# Altium footprint library PcbLib1.PcbLib: 33 footprints (part 2 of 3)
Each footprint in its own frame and in the unit in brackets; x right, y up, seen from the top. Pads: shape width x height; smd on the part's side, far side on the other; paste and mask are expansions set on the pad; w line width, h text height; cw(c..) or ccw(c..) is an arc to the next point about the centre after c.
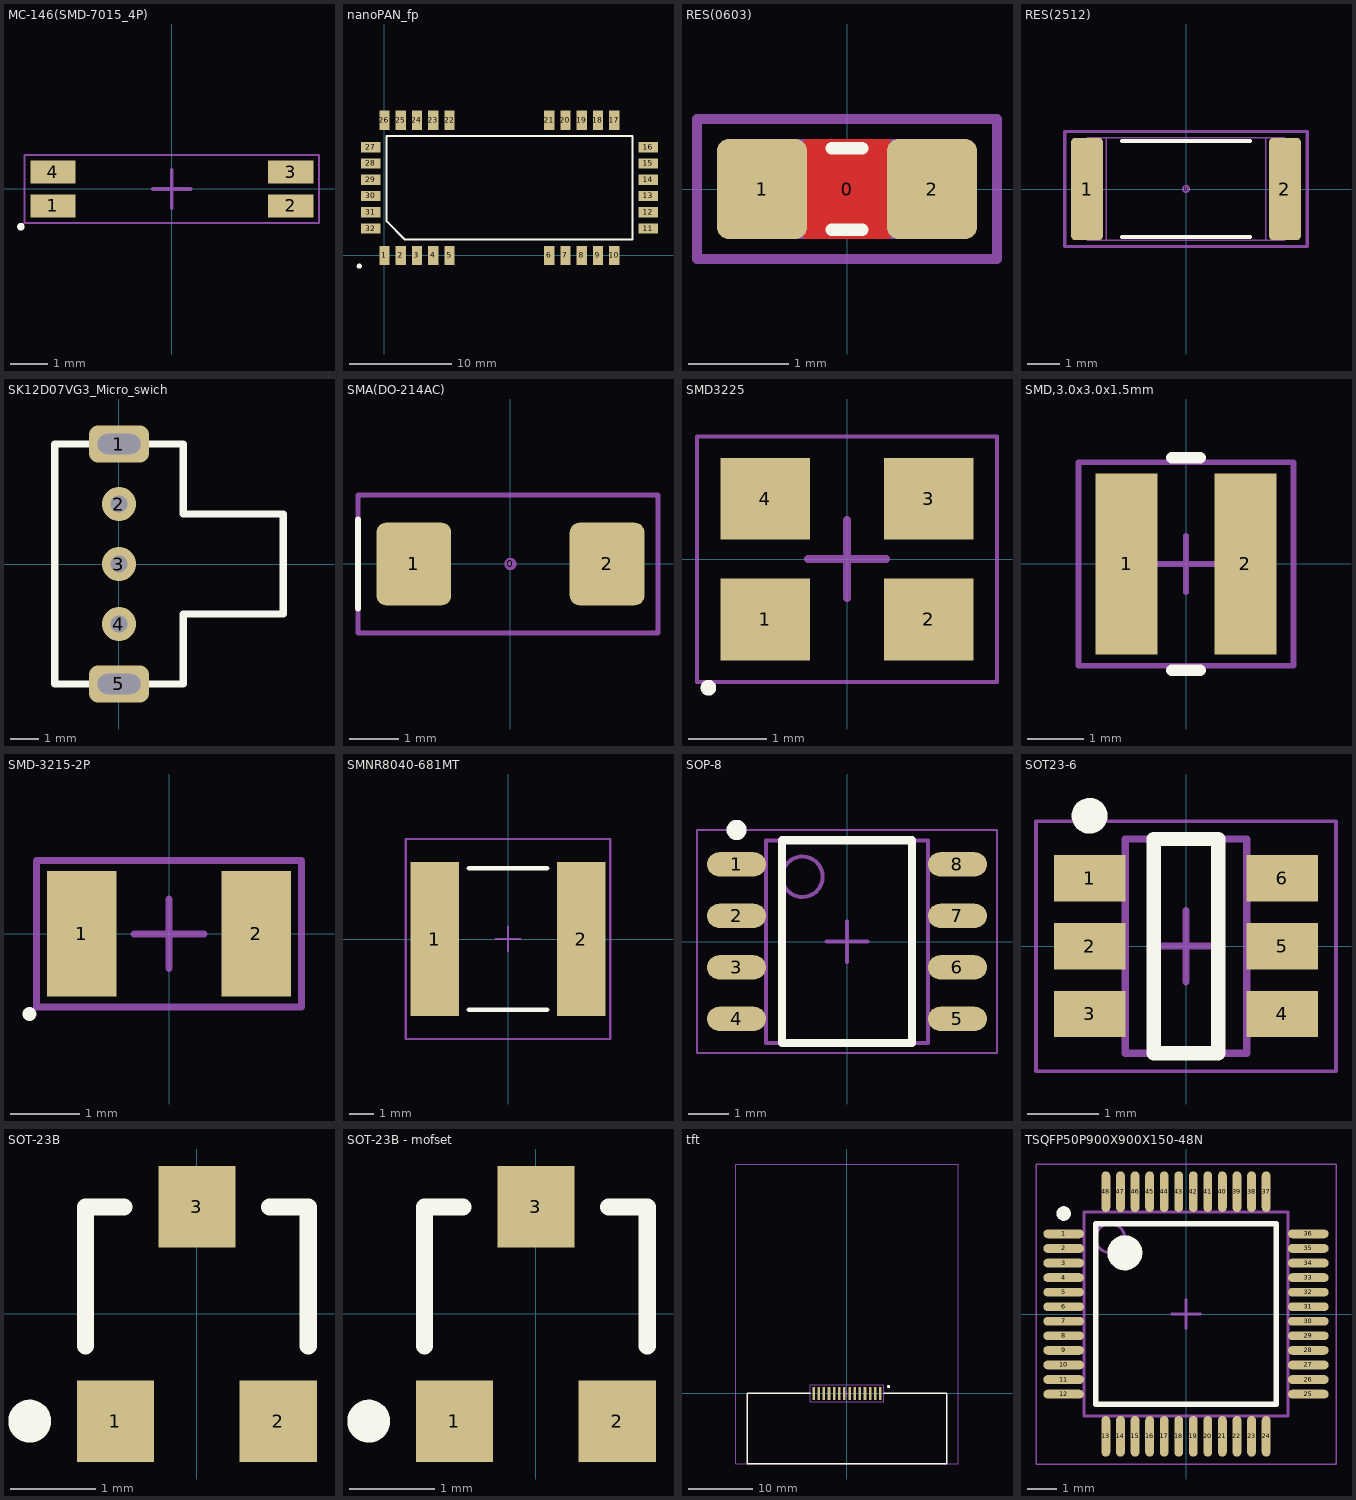
[diagram p1: the footprints below, top view; thin cyan lines are the x and y axes]

## MC-146(SMD-7015_4P) [mm]
height 1.4
pads (4):
  rect 1.2x0.6 smd: 1(-3.15,-0.45) 2(3.15,-0.45) 3(3.15,0.45) 4(-3.15,0.45)
Top Overlay:
  circle w0.1: c-4,-1 r0.05
Mechanical 15:
  lines w0.05: -3.9,-0.9 3.9,-0.9 3.9,0.9 -3.9,0.9 -3.9,-0.9
  lines w0.1: -0.5,0 0.5,0 ; 0,-0.5 0,0.5
3D body: height 1.4, standoff 0, extent -3.4,-0.7 3.4,0.7

## nanoPAN_fp [mm]
pads (32):
  rect 1x1.9 smd: 1(0,0) 2(1.6,0) 3(3.2,0) 4(4.8,0) 5(6.4,0) 6(16.2,0) 7(17.8,0) 8(19.4,0) 9(21,0) 10(22.6,0) 17(22.6,13.3) 18(21,13.3) 19(19.4,13.3) 20(17.8,13.3) 21(16.2,13.3) 22(6.4,13.3) 23(4.8,13.3) 24(3.2,13.3) 25(1.6,13.3) 26(0,13.3)
  rect 1.9x1 smd: 11(25.95,2.65) 12(25.95,4.25) 13(25.95,5.85) 14(25.95,7.45) 15(25.95,9.05) 16(25.95,10.65) 27(-1.35,10.65) 28(-1.35,9.05) 29(-1.35,7.45) 30(-1.35,5.85) 31(-1.35,4.25) 32(-1.35,2.65)
Top Overlay:
  circle w0.25: c-2.475,-1.05 r0.125
  lines w0.2: 0.225,3.35 0.225,11.75 24.375,11.75 24.375,1.55 2.025,1.55 0.225,3.35
3D body: height 3, standoff 0.8, extent -1.95,-0.6 26.55,13.9
3D body: height 0.8, standoff 0, extent -2.222,-0.85 26.822,14.15

## RES(0603) [mm] "Res 0603"
height 0.5
pads (3):
  round 0.254 on Mech15: 0(0,0)
  rrect25% 0.9x1 smd: 1(-0.85,0) 2(0.85,0)
Top Layer:
  pour cut-out: -0.425,0.5 0.425,0.5 0.425,-0.5 -0.425,-0.5
Top Overlay:
  lines w0.127: -0.152,-0.406 0.152,-0.406 ; -0.152,0.406 0.152,0.406
Mechanical 13:
  lines w0.05: -0.875,-0.475 -0.475,-0.475 -0.475,0.475 -0.875,0.475 -0.875,-0.475 ; -0.475,-0.474 0.475,-0.474 -0.475,-0.474 ; -0.475,0.474 0.475,0.474 -0.475,0.474 ; 0.475,-0.475 0.475,0.475 0.875,0.475 0.875,-0.475 0.475,-0.475
Mechanical 15:
  lines w0.1: -1.5,-0.7 -1.5,0.7 1.5,0.7 1.5,-0.7 -1.5,-0.7
3D body: height 0.5, standoff 0, extent -0.6,-0.475 0.6,0.475
3D body: height 0.5, standoff 0, extent -0.9,-0.475 -0.6,0.475
3D body: height 0.5, standoff 0, extent 0.6,-0.475 0.9,0.475

## RES(2512) [mm] "Res 2512"
height 0.6
pads (3):
  round 0.254 on Mech15: 0(0,0)
  rrect25% 1x3.2 smd: 1(-3.1,0) 2(3.1,0)
Top Overlay:
  lines w0.127: -2,-1.5 2,-1.5 ; -2,1.5 2,1.5
Mechanical 13:
  lines w0.05: -2.5,-1.6 2.5,-1.6 ; -2.5,-1.6 -3.1,-1.6 -3.1,1.6 -2.5,1.6 ; -2.5,-1.6 -2.5,1.6 ; -2.5,1.6 2.5,1.6 ; 2.5,-1.6 3.1,-1.6 ; 2.5,-1.6 2.5,1.6 ; 2.5,1.6 3.1,1.6 3.1,-1.6 ; 3.1,-1.6 3.1,-1.6
Mechanical 15:
  lines w0.1: -3.8,-1.8 3.8,-1.8 3.8,1.8 -3.8,1.8 -3.8,-1.8
3D body: height 0.5, standoff 0, extent 2.5,-1.6 3.1,1.6
3D body: height 0.5, standoff 0, extent -3.1,-1.6 -2.5,1.6
3D body: height 0.5, standoff 0, extent -2.5,-1.6 2.5,1.6

## SK12D07VG3_Micro_swich [mm] "4.5*8.6"
height 4.7
pads (5):
  rrect50% 2.1x1.3 hole 0.7 slot 1.5 at 0 deg: 1(0,4.2) 5(0,-4.2)
  round 1.2 hole 0.6: 2(0,2.1) 3(0,0) 4(0,-2.1)
Top Overlay:
  lines w0.254: -2.25,-4.2 2.25,-4.2 2.25,-1.75 5.75,-1.75 5.75,1.75 2.25,1.75 2.25,4.2 -2.25,4.2 -2.25,-4.2
3D body "User Library-CK_Slide.step": height 4.8, standoff -2.69, extent -2.1,-4.23 6.272,4.38

## SMA(DO-214AC) [mm]
height 2.5
pads (3):
  round 0.254 on Mech15: 0(0,0)
  rrect25% 1.52x1.68 smd: 1(-1.965,0) 2(1.965,0)
Top Overlay:
  lines w0.127: -3.1,-0.9 -3.1,0.9
Mechanical 15:
  lines w0.1: -3.1,-1.4 -3.1,1.4 3,1.4 3,-1.4 -3.1,-1.4
3D body: height 0.5, standoff 0, extent -1.5,-1.4 2.25,1.4
3D body: height 0.5, standoff 0, extent -2.25,-1.4 -1.5,1.4

## SMD3225 [mm] "DFN, 4-Leads, Body 2,50x3,20mm, Pitch 2,10mm, IPC Medium Density"
height 0.9
pads (4):
  rect 1.15x1.05 smd: 1(-1.05,-0.775) 2(1.05,-0.775) 3(1.05,0.775) 4(-1.05,0.775)
Top Overlay:
  circle w0.1: c-1.778,-1.651 r0.05
Mechanical 15:
  lines w0.05: -1.925,-1.575 1.925,-1.575 1.925,1.575 -1.925,1.575 -1.925,-1.575
  lines w0.1: -0.5,0 0.5,0 ; 0,-0.5 0,0.5
3D body "SMD3225.STP": height 0.61, standoff 0, extent -1.6,-1.25 1.6,1.25

## SMD,3.0x3.0x1.5mm [mm] "Chip Inductor, Body 4.0x4.0x3.0mm"
height 1.5
pads (2):
  rect 1.1x3.2 smd: 1(-1.05,0) 2(1.05,0)
Top Overlay:
  lines w0.2: -0.25,-1.875 0.25,-1.875 ; -0.25,1.875 0.25,1.875
Mechanical 15:
  lines w0.1: -0.5,0 0.5,0 ; 0,-0.5 0,0.5 ; -1.9,-1.8 1.9,-1.8 1.9,1.8 -1.9,1.8 -1.9,-1.8
3D body: height 1.5, standoff 0, extent -1.5,-1.5 1.5,1.5

## SMD-3215-2P [mm]
height 0.75
pads (2):
  rect 1x1.8 smd: 1(-1.25,0) 2(1.25,0)
Top Overlay:
  circle w0.1: c-2,-1.15 r0.05
Mechanical 15:
  lines w0.1: -0.5,0 0.5,0 ; 0,-0.5 0,0.5 ; -1.9,-1.05 1.9,-1.05 1.9,1.05 -1.9,1.05 -1.9,-1.05
3D body: height 0.75, standoff 0, extent -1.6,-0.75 1.6,0.75

## SMNR8040-681MT [mm] "Chip Inductor, Body 8.0x8.0x4.0mm"
height 4
pads (2):
  rect 2x6.3 smd: 1(-3,0) 2(3,0)
Top Overlay:
  lines w0.2: -1.6,-2.9 1.6,-2.9 ; -1.6,2.9 1.6,2.9
Mechanical 15:
  lines w0.1: -0.5,0 0.5,0 ; 0,-0.5 0,0.5 ; -4.2,-4.1 -4.2,4.1 4.2,4.1 4.2,-4.1 -4.2,-4.1
3D body: height 4, standoff 0, extent -4,-4 4,4

## SOP-8 [mm] "SOP, 8-Leads, Body 4,90x3,90mm, Pitch 1,27mm, IPC Medium Density"
height 1.5
pads (8):
  oval 1.45x0.6 smd: 1(-2.725,1.905) 2(-2.725,0.635) 3(-2.725,-0.635) 4(-2.725,-1.905) 5(2.725,-1.905) 6(2.725,-0.635) 7(2.725,0.635) 8(2.725,1.905)
Top Overlay:
  circle w0.25: c-2.725,2.755 r0.125
  lines w0.2: -1.6,-2.5 1.6,-2.5 1.6,2.5 -1.6,2.5 -1.6,-2.5
Mechanical 13:
  circle w0.1: c-1.1,1.6 r0.5
  lines w0.1: -2,-2.5 2,-2.5 2,2.5 -2,2.5 -2,-2.5
Mechanical 15:
  lines w0.05: -3.7,-2.75 3.7,-2.75 3.7,2.75 -3.7,2.75 -3.7,-2.75
  lines w0.1: -0.5,0 0.5,0 ; 0,-0.5 0,0.5
3D body: height 1.5, standoff 0.1, extent -2,-2.5 2,2.5

## SOT23-6 [mm]
height 1.35
pads (6):
  rect 1x0.65 smd: 1(-1.35,0.95) 2(-1.35,0) 3(-1.35,-0.95) 4(1.35,-0.95) 5(1.35,0) 6(1.35,0.95)
Top Overlay:
  circle w0.25: c-1.35,1.825 r0.125
  lines w0.2: -0.45,-1.5 -0.45,1.5 0.45,1.5 0.45,-1.5 -0.45,-1.5
Mechanical 13:
  lines w0.1: -0.85,-1.5 0.85,-1.5 0.85,1.5 -0.85,1.5 -0.85,-1.5
Mechanical 15:
  lines w0.05: -2.1,-1.75 2.1,-1.75 2.1,1.75 -2.1,1.75 -2.1,-1.75
  lines w0.1: -0.5,0 0.5,0 ; 0,-0.5 0,0.5
3D body: height 1.35, standoff 0.05, extent -0.85,-1.5 0.85,1.5

## SOT-23B [mm] "SOT-23; 3 Leads; Body 3.0 x 2.6 mm, inc. leads (LxW max)"
height 1.09
pads (3):
  rect 0.9x0.95 smd: 1(-0.95,-1.25) 2(0.95,-1.25) 3(0,1.25)
Top Overlay:
  circle w0.25: c-1.95,-1.25 r0.125
  lines w0.2: -1.3,-0.375 -1.3,1.25 -0.85,1.25 ; 0.85,1.25 1.3,1.25 1.3,-0.375
3D body "BAV99.stp": height 1.1, standoff 0, extent -1.45,-1.15 1.45,1.15

## SOT-23B - mofset [mm] "SOT-23; 3 Leads; Body 3.0 x 2.6 mm, inc. leads (LxW max)"
height 1.09
pads (3):
  rect 0.9x0.95 smd: 1(-0.95,-1.25) 2(0.95,-1.25) 3(0,1.25)
Top Overlay:
  circle w0.25: c-1.95,-1.25 r0.125
  lines w0.2: -1.3,-0.375 -1.3,1.25 -0.85,1.25 ; 0.85,1.25 1.3,1.25 1.3,-0.375
3D body "BAV99.stp": height 1.1, standoff 0, extent -1.45,-1.15 1.45,1.15

## tft [mm] "14pin, 0.4w"
pads (14):
  rect 0.4x2 smd: 1(5.2,0) 2(4.4,0) 3(3.6,0) 4(2.8,0) 5(2,0) 6(1.2,0) 7(0.4,0) 8(-0.4,0) 9(-1.2,0) 10(-2,0) 11(-2.8,0) 12(-3.6,0) 13(-4.4,0) 14(-5.2,0)
Top Overlay:
  circle w0.25: c6.475,1.05 r0.125
  lines w0.2: -5.75,0 -15.5,0 -15.5,-11 15.5,-11 15.5,0 5.75,0
Mechanical 13:
  lines w0.05: -17.35,-11 -17.35,35.7 17.35,35.7 17.35,-11 -17.35,-11
Mechanical 15:
  lines w0.1: -0.5,0 0.5,0 ; 0,-0.5 0,0.5 ; -5.7,-1.3 -5.7,1.3 5.7,1.3 5.7,-1.3 -5.7,-1.3
3D body: height 2.5, standoff 0, extent -17.35,-11 17.35,35.7

## TSQFP50P900X900X150-48N [mm] "TSQFP, 48-Leads, Body 7,00x7,00mm, Pitch 0,50mm, IPC Medium Density"
height 1.5
pads (48):
  oval 1.4x0.3 smd: 1(-4.2,2.75) 2(-4.2,2.25) 3(-4.2,1.75) 4(-4.2,1.25) 5(-4.2,0.75) 6(-4.2,0.25) 7(-4.2,-0.25) 8(-4.2,-0.75) 9(-4.2,-1.25) 10(-4.2,-1.75) 11(-4.2,-2.25) 12(-4.2,-2.75) 25(4.2,-2.75) 26(4.2,-2.25) 27(4.2,-1.75) 28(4.2,-1.25) 29(4.2,-0.75) 30(4.2,-0.25) 31(4.2,0.25) 32(4.2,0.75) 33(4.2,1.25) 34(4.2,1.75) 35(4.2,2.25) 36(4.2,2.75)
  oval 0.3x1.4 smd: 13(-2.75,-4.2) 14(-2.25,-4.2) 15(-1.75,-4.2) 16(-1.25,-4.2) 17(-0.75,-4.2) 18(-0.25,-4.2) 19(0.25,-4.2) 20(0.75,-4.2) 21(1.25,-4.2) 22(1.75,-4.2) 23(2.25,-4.2) 24(2.75,-4.2) 37(2.75,4.2) 38(2.25,4.2) 39(1.75,4.2) 40(1.25,4.2) 41(0.75,4.2) 42(0.25,4.2) 43(-0.25,4.2) 44(-0.75,4.2) 45(-1.25,4.2) 46(-1.75,4.2) 47(-2.25,4.2) 48(-2.75,4.2)
Top Overlay:
  circle w0.6: c-2.1,2.1 r0.3
  circle w0.25: c-4.2,3.45 r0.125
  lines w0.2: -3.1,-3.1 3.1,-3.1 3.1,3.1 -3.1,3.1 -3.1,-3.1
Mechanical 13:
  circle w0.1: c-2.6,2.6 r0.5
  lines w0.1: -3.5,-3.5 3.5,-3.5 3.5,3.5 -3.5,3.5 -3.5,-3.5
Mechanical 15:
  lines w0.05: -5.15,-5.15 5.15,-5.15 5.15,5.15 -5.15,5.15 -5.15,-5.15
  lines w0.1: -0.5,0 0.5,0 ; 0,-0.5 0,0.5
3D body: height 1.5, standoff 0.1, extent -3.5,-3.5 3.5,3.5